# EAGLE library part AT2659 (library FPE)
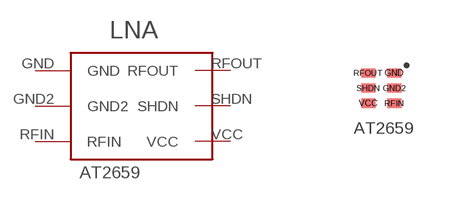
[diagram p0: symbol with the pads of AT2659; footprint AT2659]

Designator prefix -

## AT2659  [AT2659]
GND  GND
GND2  GND2
RFIN  RFIN
RFOUT  RFOUT
SHDN  SHDN
VCC  VCC

## Footprint AT2659 (pad centres in mm)
smd 0.35 x 0.23: GND 0.825,0.875; GND2 0.825,0.495; RFIN 0.825,0.115; RFOUT 0.175,0.875; SHDN 0.175,0.495; VCC 0.175,0.115